# EAGLE library part R-NET (library rcl_s)
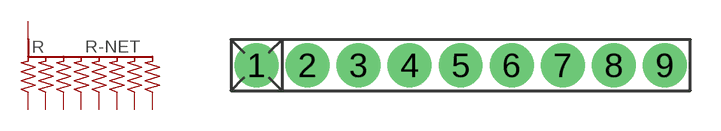
[diagram p0: symbol with the pads of R_NET9; footprint R_NET9]

Designator prefix R

## R-NET  [R_NET9]
1  0  pas
2  1  pas
3  2  pas
4  3  pas
5  4  pas
6  5  pas
7  6  pas
8  7  pas
9  8  pas

## Footprint R_NET9 (pad centres in mm)
drill 1 pad 2.184: 1 -10.16,0; 2 -7.62,0; 3 -5.08,0; 4 -2.54,0; 5 0,0; 6 2.54,0; 7 5.08,0; 8 7.62,0; 9 10.16,0